# EAGLE library part LM3578 (library adapter)
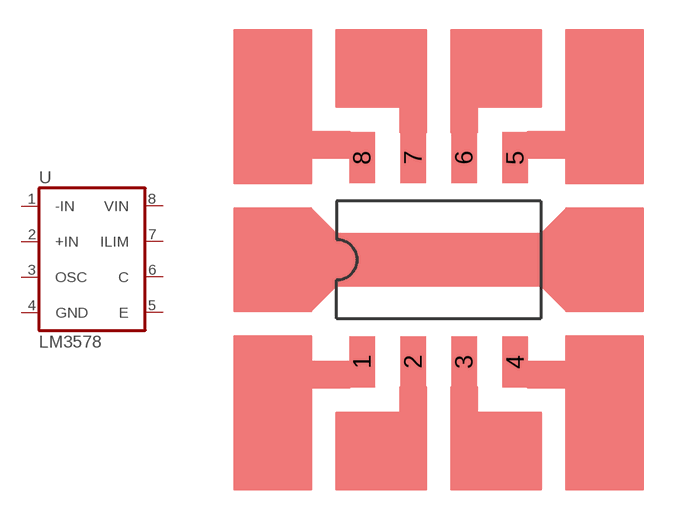
[diagram p0: symbol with the pads of DIP4-SMD; footprint DIP4-SMD]

Designator prefix -

## LM3578  [DIP4-SMD]
1  -IN  in
2  +IN  in
3  OSC  pas
4  GND  sup
5  E  pas
6  C  pas
7  ILIM  in
8  VIN  pwr

## Footprint DIP4-SMD (pad centres in mm)
smd 1.27 x 2.54: 1 -3.81,-5.08; 2 -1.27,-5.08; 3 1.27,-5.08; 4 3.81,-5.08; 5 3.81,5.08; 6 1.27,5.08; 7 -1.27,5.08; 8 -3.81,5.08